# Altium footprint library CS_PcbLib1.PcbLib: 48 footprints (part 2 of 3)
Each footprint in its own frame and in the unit in brackets; x right, y up, seen from the top. Pads: shape width x height; smd on the part's side, far side on the other; paste and mask are expansions set on the pad; w line width, h text height; cw(c..) or ccw(c..) is an arc to the next point about the centre after c.
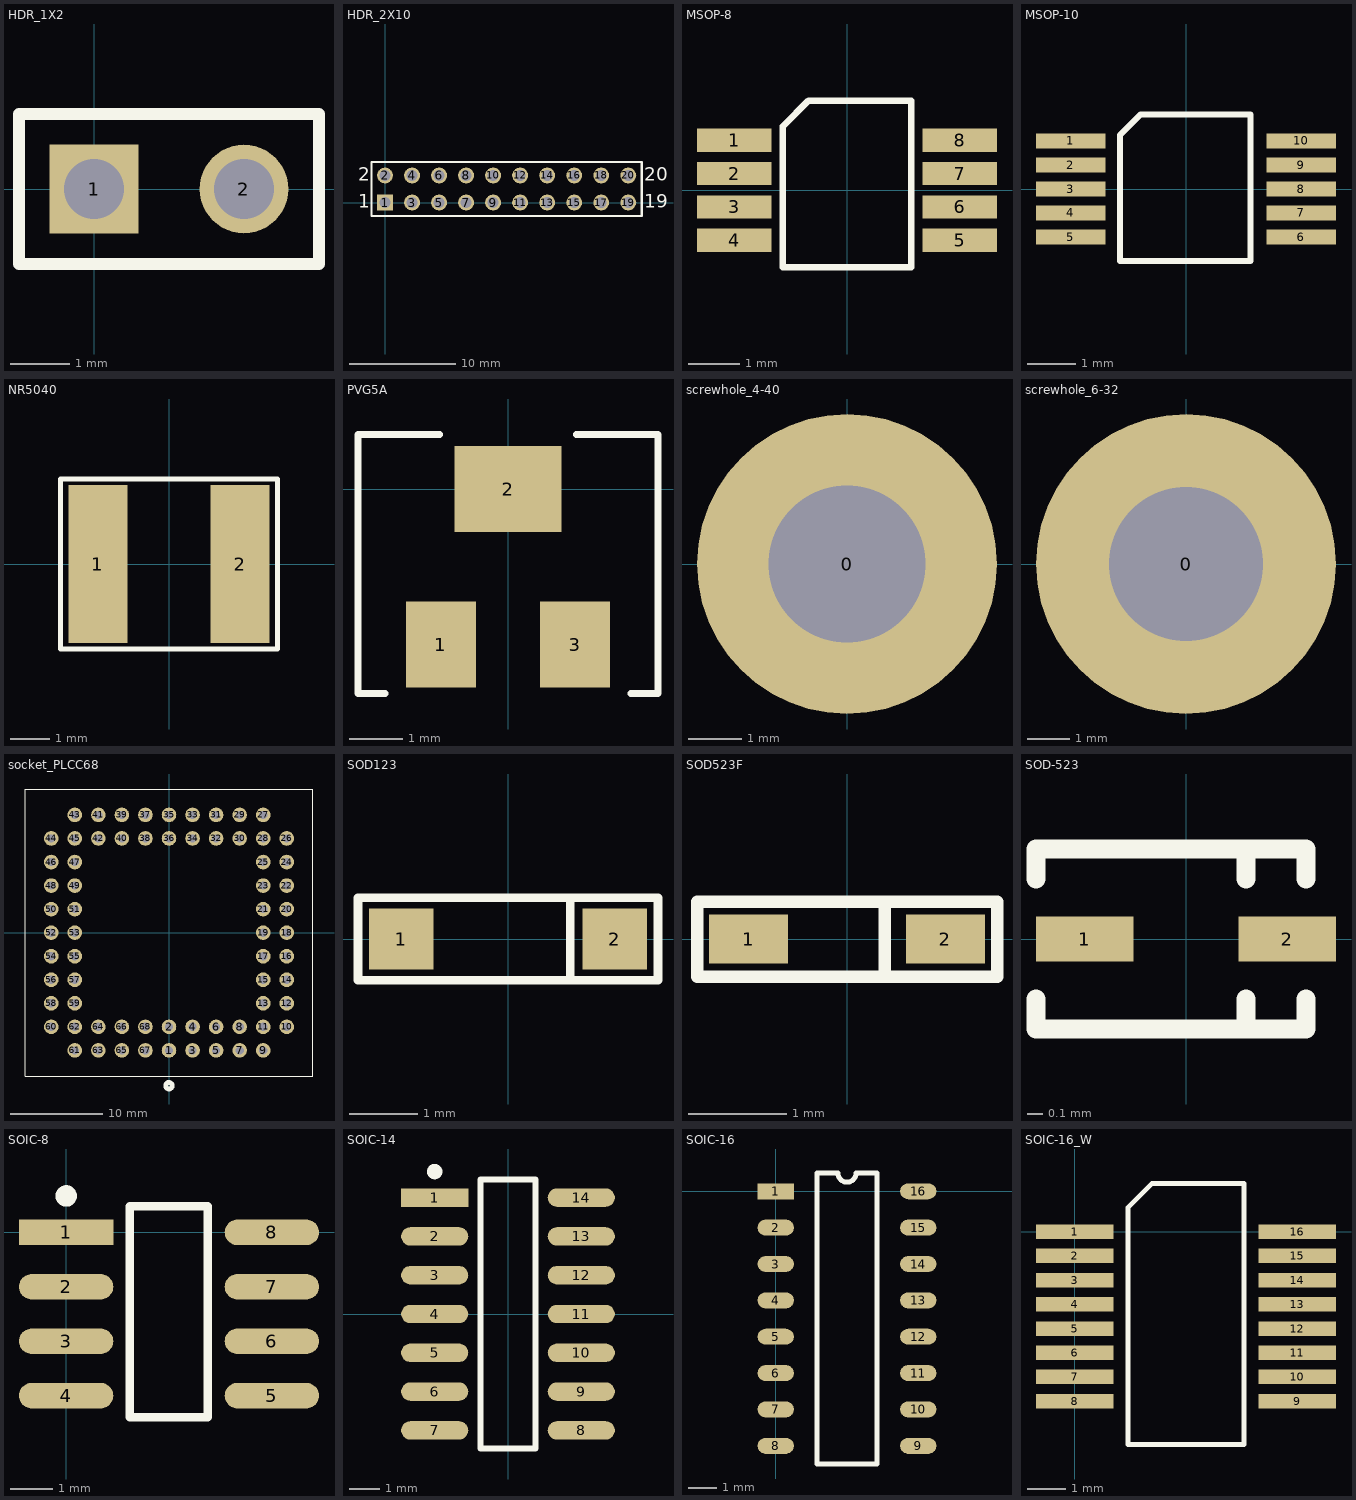
[diagram p1: the footprints below, top view; thin cyan lines are the x and y axes]

## HDR_1X2 [mm] "Connector; Header; 2 Position"
pads (2):
  rect 1.5x1.5 hole 1.016: 1(0,0)
  round 1.5 hole 1.016: 2(2.54,0)
Top Overlay:
  lines w0.2: -1.27,-1.27 -1.27,1.27 3.81,1.27 3.81,-1.27 -1.27,-1.27

## HDR_2X10 [mm] "Connector; Header; 10x2 Position"
pads (20):
  rect 1.5x1.5 hole 1.016: 1(0,0)
  round 1.5 hole 1.016: 2(0,2.54) 3(2.54,0) 4(2.54,2.54) 5(5.08,0) 6(5.08,2.54) 7(7.62,0) 8(7.62,2.54) 9(10.16,0) 10(10.16,2.54) 11(12.7,0) 12(12.7,2.54) 13(15.24,0) 14(15.24,2.54) 15(17.78,0) 16(17.78,2.54) 17(20.32,0) 18(20.32,2.54) 19(22.86,0) 20(22.86,2.54)
Top Overlay:
  lines w0.2: -1.27,-1.27 -1.27,3.81 0.635,3.81 24.13,3.81 24.13,-1.27 0.635,-1.27 -1.27,-1.27
  text "2" at -2.54,2.032 h1.27
  text "1" at -2.54,-0.508 h1.27
  text "19" at 24.384,-0.508 h1.27
  text "20" at 24.384,2.032 h1.27

## MSOP-8 [mm]
pads (8):
  rect 1.45x0.45 smd mask+0: 1(-2.2,0.975) 2(-2.2,0.325) 3(-2.2,-0.325) 4(-2.2,-0.975) 5(2.2,-0.975) 6(2.2,-0.325) 7(2.2,0.325) 8(2.2,0.975)
Top Overlay:
  lines w0.127: -1.25,-1.5 1.25,-1.5 1.25,1.75 -0.75,1.75 -1.25,1.25 -1.25,-1.5

## MSOP-10 [mm]
pads (10):
  rect 1.45x0.32 smd mask+0: 1(-2.4,1) 2(-2.4,0.5) 3(-2.4,0) 4(-2.4,-0.5) 5(-2.4,-1) 6(2.4,-1) 7(2.4,-0.5) 8(2.4,0) 9(2.4,0.5) 10(2.4,1)
Top Overlay:
  lines w0.127: -1.372,-1.499 1.346,-1.499 1.346,1.549 -0.951,1.549 -1.372,1.128 -1.372,-1.499

## NR5040 [mm] "fixed inductor"
pads (2):
  rect 1.5x4 smd mask+0: 1(-1.8,0) 2(1.8,0)
Top Overlay:
  lines w0.127: -2.743,-2.159 2.743,-2.159 2.743,2.159 -2.743,2.159 -2.743,-2.159

## PVG5A [mm] "bourns trimpot surface mount PVG5A series"
pads (3):
  rect 1.3x1.6 smd: 1(-1.25,-2.9) 3(1.25,-2.9)
  rect 2x1.6 smd: 2(0,0)
Top Overlay:
  lines w0.127: -2.286,-3.81 -2.794,-3.81 -2.794,1.016 -1.27,1.016 ; 1.27,1.016 2.794,1.016 2.794,-3.81 2.286,-3.81

## screwhole_4-40 [mil] "hole for a pan head 4-40 screw"
pads (1):
  round 221 hole 116 mask+0: 0(0,0)

## screwhole_6-32 [mil] "hole for a panhead 6-32 screw"
pads (1):
  round 280 hole 144 mask+0: 0(0,0)

## socket_PLCC68 [mil] "68-pin thru-hole socket for PLCC package"
pads (68):
  round 62 hole 35 unplated mask+0: 1(0,-500) 2(0,-400) 3(100,-500) 4(100,-400) 5(200,-500) 6(200,-400) 7(300,-500) 8(300,-400) 9(400,-500) 10(500,-400) 11(400,-400) 12(500,-300) 13(400,-300) 14(500,-200) 15(400,-200) 16(500,-100) 17(400,-100) 18(500,0) 19(400,0) 20(500,100) 21(400,100) 22(500,200) 23(400,200) 24(500,300) 25(400,300) 26(500,400) 27(400,500) 28(400,400) 29(300,500) 30(300,400) 31(200,500) 32(200,400) 33(100,500) 34(100,400) 35(0,500) 36(0,400) 37(-100,500) 38(-100,400) 39(-200,500) 40(-200,400) 41(-300,500) 42(-300,400) 43(-400,500) 44(-500,400) 45(-400,400) 46(-500,300) 47(-400,300) 48(-500,200) 49(-400,200) 50(-500,100) 51(-400,100) 52(-500,0) 53(-400,0) 54(-500,-100) 55(-400,-100) 56(-500,-200) 57(-400,-200) 58(-500,-300) 59(-400,-300) 60(-500,-400) 61(-400,-500) 62(-400,-400) 63(-300,-500) 64(-300,-400) 65(-200,-500) 66(-200,-400) 67(-100,-500) 68(-100,-400)
Top Overlay:
  circle w20: c0,-650 r13.92
  lines w5: -610.24,-610.16 -610.24,609.84 ; -610,-610.39 610,-610.39 ; -610,610.08 610,610.08 ; 610.24,-610.16 610.24,609.84

## SOD123 [mm]
pads (2):
  rect 0.95x0.9 smd mask+0: 1(-1.575,0) 2(1.575,0)
Top Overlay:
  lines w0.127: 0.914,-0.559 0.914,0.61 ; -2.21,-0.61 -2.21,0.61 2.21,0.61 2.21,-0.61 -2.21,-0.61

## SOD523F [mm]
pads (2):
  rect 0.8x0.5 smd mask+0: 1(-1,0) 2(1,0)
Top Overlay:
  lines w0.127: 0.381,-0.381 0.381,0.381 ; -1.524,-0.381 -1.524,0.381 1.524,0.381 1.524,-0.381 -1.524,-0.381

## SOD-523 [mm] "surface mount diode"
pads (2):
  rect 0.65x0.3 smd: 1(-0.675,0) 2(0.675,0)
Top Overlay:
  lines w0.127: -1,-0.4 -1,-0.6 0.8,-0.6 0.8,-0.4 ; -1,0.4 -1,0.6 0.8,0.6 0.8,0.4 ; 0.4,-0.6 0.4,-0.4 ; 0.4,0.4 0.4,0.6

## SOIC-8 [mm] "SOIC, 8-Leads, Pitch 1.27mm, IPC Medium Density"
height 1.75
pads (8):
  rect 2.2x0.6 smd: 1(0,0)
  oval 2.2x0.6 smd: 2(0,-1.27) 3(0,-2.54) 4(0,-3.81) 5(4.8,-3.81) 6(4.8,-2.54) 7(4.8,-1.27) 8(4.8,0)
Top Overlay:
  circle w0.25: c0,0.85 r0.125
  lines w0.2: 1.486,-4.318 3.3,-4.318 3.3,0.61 1.486,0.61 1.486,-4.318

## SOIC-14 [mm] "SOIC, 14-Leads, Body 8.65x3.9mm, Pitch 1.27mm, IPC Medium Density"
height 1.75
pads (14):
  rect 2.2x0.6 smd: 1(-2.4,3.81)
  oval 2.2x0.6 smd: 2(-2.4,2.54) 3(-2.4,1.27) 4(-2.4,0) 5(-2.4,-1.27) 6(-2.4,-2.54) 7(-2.4,-3.81) 8(2.4,-3.81) 9(2.4,-2.54) 10(2.4,-1.27) 11(2.4,0) 12(2.4,1.27) 13(2.4,2.54) 14(2.4,3.81)
Top Overlay:
  circle w0.25: c-2.4,4.66 r0.125
  lines w0.2: -0.9,-4.4 -0.9,4.4 0.9,4.4 0.9,-4.4 -0.9,-4.4

## SOIC-16 [mil]
pads (16):
  rect 50x22 smd: 1(0,0)
  oval 50x22 smd: 2(0,-50) 3(0,-100) 4(0,-150) 5(0,-200) 6(0,-250) 7(0,-300) 8(0,-350) 9(196,-350) 10(196,-300) 11(196,-250) 12(196,-200) 13(196,-150) 14(196,-100) 15(196,-50) 16(196,0)
Top Overlay:
  lines w7: 57,-375 139,-375 139,25 110.5,25 cw(c98,25) 85.5,25 57,25 57,-375

## SOIC-16_W [mil] "SOIC 16-pin wide body"
pads (16):
  rect 80x15 smd: 1(0,0) 2(0,-25) 3(0,-50) 4(0,-75) 5(0,-100) 6(0,-125) 7(0,-150) 8(0,-175) 9(230,-175) 10(230,-150) 11(230,-125) 12(230,-100) 13(230,-75) 14(230,-50) 15(230,-25) 16(230,0)
Top Overlay:
  lines w5: 55,-220 55,25 80,50 175,50 175,-220 55,-220